# Altium footprint library CQFP_Sq_50P_Side_N.PcbLib: 5 footprints
Each footprint in its own frame and in the unit in brackets; x right, y up, seen from the top. Pads: shape width x height; smd on the part's side, far side on the other; paste and mask are expansions set on the pad; w line width, h text height; cw(c..) or ccw(c..) is an arc to the next point about the centre after c.
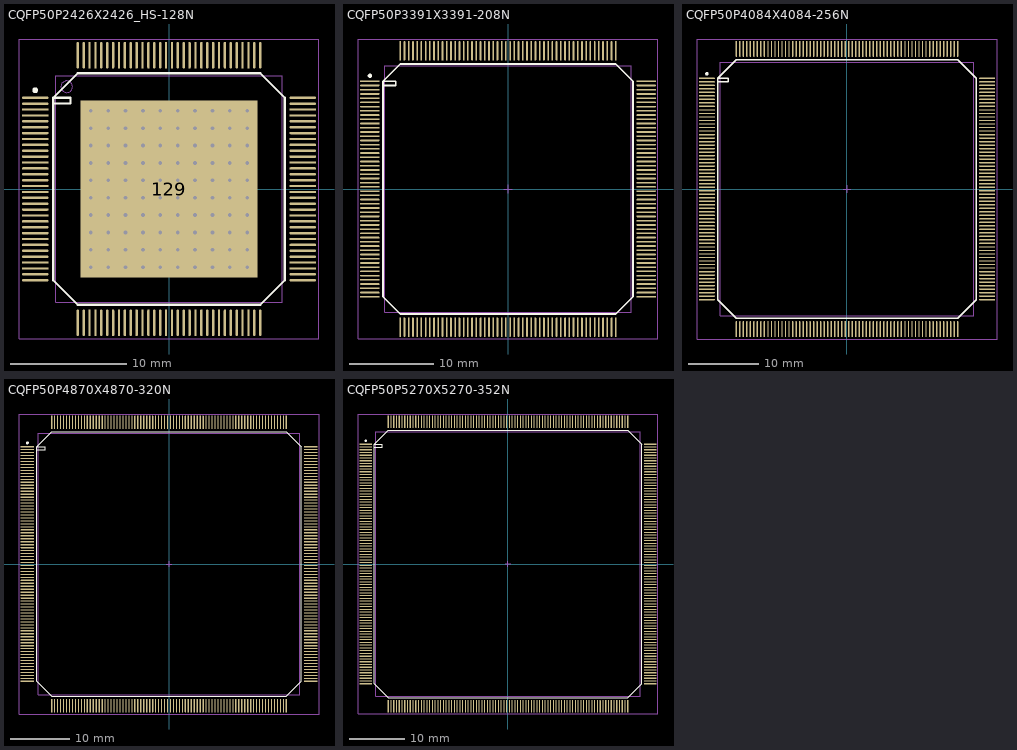
[diagram p0: the footprints below, top view; thin cyan lines are the x and y axes]

## CQFP50P2426X2426_HS-128N [mm] "CQFP, 128-Leads, Body 19.6x19.6mm; Pitch 0.508mm, Gullwing Leadform, IPC Medium Density"
height 3.4
pads (129):
  oval 2.3x0.2 smd: 1(-11.55,7.874) 2(-11.55,7.366) 3(-11.55,6.858) 4(-11.55,6.35) 5(-11.55,5.842) 6(-11.55,5.334) 7(-11.55,4.826) 8(-11.55,4.318) 9(-11.55,3.81) 10(-11.55,3.302) 11(-11.55,2.794) 12(-11.55,2.286) 13(-11.55,1.778) 14(-11.55,1.27) 15(-11.55,0.762) 16(-11.55,0.254) 17(-11.55,-0.254) 18(-11.55,-0.762) 19(-11.55,-1.27) 20(-11.55,-1.778) 21(-11.55,-2.286) 22(-11.55,-2.794) 23(-11.55,-3.302) 24(-11.55,-3.81) 25(-11.55,-4.318) 26(-11.55,-4.826) 27(-11.55,-5.334) 28(-11.55,-5.842) 29(-11.55,-6.35) 30(-11.55,-6.858) 31(-11.55,-7.366) 32(-11.55,-7.874) 65(11.55,-7.874) 66(11.55,-7.366) 67(11.55,-6.858) 68(11.55,-6.35) 69(11.55,-5.842) 70(11.55,-5.334) 71(11.55,-4.826) 72(11.55,-4.318) 73(11.55,-3.81) 74(11.55,-3.302) 75(11.55,-2.794) 76(11.55,-2.286) 77(11.55,-1.778) 78(11.55,-1.27) 79(11.55,-0.762) 80(11.55,-0.254) 81(11.55,0.254) 82(11.55,0.762) 83(11.55,1.27) 84(11.55,1.778) 85(11.55,2.286) 86(11.55,2.794) 87(11.55,3.302) 88(11.55,3.81) 89(11.55,4.318) 90(11.55,4.826) 91(11.55,5.334) 92(11.55,5.842) 93(11.55,6.35) 94(11.55,6.858) 95(11.55,7.366) 96(11.55,7.874)
  oval 0.2x2.3 smd: 33(-7.874,-11.55) 34(-7.366,-11.55) 35(-6.858,-11.55) 36(-6.35,-11.55) 37(-5.842,-11.55) 38(-5.334,-11.55) 39(-4.826,-11.55) 40(-4.318,-11.55) 41(-3.81,-11.55) 42(-3.302,-11.55) 43(-2.794,-11.55) 44(-2.286,-11.55) 45(-1.778,-11.55) 46(-1.27,-11.55) 47(-0.762,-11.55) 48(-0.254,-11.55) 49(0.254,-11.55) 50(0.762,-11.55) 51(1.27,-11.55) 52(1.778,-11.55) 53(2.286,-11.55) 54(2.794,-11.55) 55(3.302,-11.55) 56(3.81,-11.55) 57(4.318,-11.55) 58(4.826,-11.55) 59(5.334,-11.55) 60(5.842,-11.55) 61(6.35,-11.55) 62(6.858,-11.55) 63(7.366,-11.55) 64(7.874,-11.55) 97(7.874,11.55) 98(7.366,11.55) 99(6.858,11.55) 100(6.35,11.55) 101(5.842,11.55) 102(5.334,11.55) 103(4.826,11.55) 104(4.318,11.55) 105(3.81,11.55) 106(3.302,11.55) 107(2.794,11.55) 108(2.286,11.55) 109(1.778,11.55) 110(1.27,11.55) 111(0.762,11.55) 112(0.254,11.55) 113(-0.254,11.55) 114(-0.762,11.55) 115(-1.27,11.55) 116(-1.778,11.55) 117(-2.286,11.55) 118(-2.794,11.55) 119(-3.302,11.55) 120(-3.81,11.55) 121(-4.318,11.55) 122(-4.826,11.55) 123(-5.334,11.55) 124(-5.842,11.55) 125(-6.35,11.55) 126(-6.858,11.55) 127(-7.366,11.55) 128(-7.874,11.55)
  rect 15.3x15.3 smd: 129(0,0)
via 6.75,2.25 diameter 0.43 hole 0.33
via 5.25,2.25 diameter 0.43 hole 0.33
via 6.75,3.75 diameter 0.43 hole 0.33
via 5.25,3.75 diameter 0.43 hole 0.33
via -6.75,3.75 diameter 0.43 hole 0.33
via -6.75,2.25 diameter 0.43 hole 0.33
via -5.25,2.25 diameter 0.43 hole 0.33
via -5.25,3.75 diameter 0.43 hole 0.33
via -6.75,-3.75 diameter 0.43 hole 0.33
via -5.25,-3.75 diameter 0.43 hole 0.33
via -6.75,-2.25 diameter 0.43 hole 0.33
via -5.25,-2.25 diameter 0.43 hole 0.33
via 6.75,-3.75 diameter 0.43 hole 0.33
via 5.25,-3.75 diameter 0.43 hole 0.33
via 6.75,-2.25 diameter 0.43 hole 0.33
via 5.25,-2.25 diameter 0.43 hole 0.33
via 6.75,-0.75 diameter 0.43 hole 0.33
via 6.75,0.75 diameter 0.43 hole 0.33
via 5.25,-0.75 diameter 0.43 hole 0.33
via 5.25,0.75 diameter 0.43 hole 0.33
via -5.25,0.75 diameter 0.43 hole 0.33
via -6.75,0.75 diameter 0.43 hole 0.33
via -6.75,-0.75 diameter 0.43 hole 0.33
via -5.25,-0.75 diameter 0.43 hole 0.33
via 3.75,3.75 diameter 0.43 hole 0.33
via 2.25,3.75 diameter 0.43 hole 0.33
via 0.75,3.75 diameter 0.43 hole 0.33
via -3.75,3.75 diameter 0.43 hole 0.33
via -2.25,3.75 diameter 0.43 hole 0.33
via -0.75,3.75 diameter 0.43 hole 0.33
via 3.75,2.25 diameter 0.43 hole 0.33
via 2.25,2.25 diameter 0.43 hole 0.33
via 0.75,2.25 diameter 0.43 hole 0.33
via -3.75,2.25 diameter 0.43 hole 0.33
via -2.25,2.25 diameter 0.43 hole 0.33
via -0.75,2.25 diameter 0.43 hole 0.33
via 3.75,0.75 diameter 0.43 hole 0.33
via 2.25,0.75 diameter 0.43 hole 0.33
via 0.75,0.75 diameter 0.43 hole 0.33
via -3.75,0.75 diameter 0.43 hole 0.33
via -2.25,0.75 diameter 0.43 hole 0.33
via -0.75,0.75 diameter 0.43 hole 0.33
via 3.75,-3.75 diameter 0.43 hole 0.33
via 2.25,-3.75 diameter 0.43 hole 0.33
via 0.75,-3.75 diameter 0.43 hole 0.33
via -3.75,-3.75 diameter 0.43 hole 0.33
via -2.25,-3.75 diameter 0.43 hole 0.33
via -0.75,-3.75 diameter 0.43 hole 0.33
via 3.75,-2.25 diameter 0.43 hole 0.33
via 2.25,-2.25 diameter 0.43 hole 0.33
via 0.75,-2.25 diameter 0.43 hole 0.33
via -3.75,-2.25 diameter 0.43 hole 0.33
via -2.25,-2.25 diameter 0.43 hole 0.33
via 3.75,-0.75 diameter 0.43 hole 0.33
via 2.25,-0.75 diameter 0.43 hole 0.33
via 0.75,-0.75 diameter 0.43 hole 0.33
via -3.75,-0.75 diameter 0.43 hole 0.33
via -2.25,-0.75 diameter 0.43 hole 0.33
via -0.75,-2.25 diameter 0.43 hole 0.33
via -0.75,-0.75 diameter 0.43 hole 0.33
via -0.75,5.25 diameter 0.43 hole 0.33
via -2.25,5.25 diameter 0.43 hole 0.33
via -3.75,5.25 diameter 0.43 hole 0.33
via 0.75,5.25 diameter 0.43 hole 0.33
via 2.25,5.25 diameter 0.43 hole 0.33
via 3.75,5.25 diameter 0.43 hole 0.33
via -5.25,5.25 diameter 0.43 hole 0.33
via -6.75,5.25 diameter 0.43 hole 0.33
via 5.25,5.25 diameter 0.43 hole 0.33
via 6.75,5.25 diameter 0.43 hole 0.33
via -0.75,6.75 diameter 0.43 hole 0.33
via -2.25,6.75 diameter 0.43 hole 0.33
via -3.75,6.75 diameter 0.43 hole 0.33
via 0.75,6.75 diameter 0.43 hole 0.33
via 2.25,6.75 diameter 0.43 hole 0.33
via 3.75,6.75 diameter 0.43 hole 0.33
via -5.25,6.75 diameter 0.43 hole 0.33
via -6.75,6.75 diameter 0.43 hole 0.33
via 5.25,6.75 diameter 0.43 hole 0.33
via 6.75,6.75 diameter 0.43 hole 0.33
via 0.75,-5.25 diameter 0.43 hole 0.33
via 2.25,-5.25 diameter 0.43 hole 0.33
via 3.75,-5.25 diameter 0.43 hole 0.33
via -0.75,-5.25 diameter 0.43 hole 0.33
via -2.25,-5.25 diameter 0.43 hole 0.33
via -3.75,-5.25 diameter 0.43 hole 0.33
via 5.25,-5.25 diameter 0.43 hole 0.33
via 6.75,-5.25 diameter 0.43 hole 0.33
via -5.25,-5.25 diameter 0.43 hole 0.33
via -6.75,-5.25 diameter 0.43 hole 0.33
via 0.75,-6.75 diameter 0.43 hole 0.33
via 2.25,-6.75 diameter 0.43 hole 0.33
via 3.75,-6.75 diameter 0.43 hole 0.33
via -0.75,-6.75 diameter 0.43 hole 0.33
via -2.25,-6.75 diameter 0.43 hole 0.33
via -3.75,-6.75 diameter 0.43 hole 0.33
via 5.25,-6.75 diameter 0.43 hole 0.33
via 6.75,-6.75 diameter 0.43 hole 0.33
via -5.25,-6.75 diameter 0.43 hole 0.33
via -6.75,-6.75 diameter 0.43 hole 0.33
Top Overlay:
  circle w0.25: c-11.55,8.524 r0.125
  lines w0.2: -10,7.375 -8.5,7.375 -8.5,7.875 -10,7.875 ; -10,7.875 -10,-7.875 -7.875,-10 7.875,-10 10,-7.875 10,7.875 7.875,10 -7.875,10 -10,7.875
Mechanical 13:
  circle w0.1: c-8.83,8.83 r0.5
  lines w0.1: -9.78,-9.78 -9.78,9.78 9.78,9.78 9.78,-9.78 -9.78,-9.78
Mechanical 15:
  lines w0.1: -12.95,-12.95 -12.95,12.95 12.95,12.95 12.95,-12.95 -12.95,-12.95 ; -0.5,0 0.5,0 -0.5,0 ; 0,-0.5 0,0.5 0,-0.5
3D body: height 3.4, standoff 0, extent -9.78,-9.78 9.78,9.78

## CQFP50P3391X3391-208N [mm] "CQFP, 208-Leads, Body 29x29mm; Pitch 0.5mm, Gullwing Leadform, IPC Medium Density"
height 3.3
pads (208):
  oval 2.3x0.2 smd: 1(-16.35,12.75) 2(-16.35,12.25) 3(-16.35,11.75) 4(-16.35,11.25) 5(-16.35,10.75) 6(-16.35,10.25) 7(-16.35,9.75) 8(-16.35,9.25) 9(-16.35,8.75) 10(-16.35,8.25) 11(-16.35,7.75) 12(-16.35,7.25) 13(-16.35,6.75) 14(-16.35,6.25) 15(-16.35,5.75) 16(-16.35,5.25) 17(-16.35,4.75) 18(-16.35,4.25) 19(-16.35,3.75) 20(-16.35,3.25) 21(-16.35,2.75) 22(-16.35,2.25) 23(-16.35,1.75) 24(-16.35,1.25) 25(-16.35,0.75) 26(-16.35,0.25) 27(-16.35,-0.25) 28(-16.35,-0.75) 29(-16.35,-1.25) 30(-16.35,-1.75) 31(-16.35,-2.25) 32(-16.35,-2.75) 33(-16.35,-3.25) 34(-16.35,-3.75) 35(-16.35,-4.25) 36(-16.35,-4.75) 37(-16.35,-5.25) 38(-16.35,-5.75) 39(-16.35,-6.25) 40(-16.35,-6.75) 41(-16.35,-7.25) 42(-16.35,-7.75) 43(-16.35,-8.25) 44(-16.35,-8.75) 45(-16.35,-9.25) 46(-16.35,-9.75) 47(-16.35,-10.25) 48(-16.35,-10.75) 49(-16.35,-11.25) 50(-16.35,-11.75) 51(-16.35,-12.25) 52(-16.35,-12.75) 105(16.35,-12.75) 106(16.35,-12.25) 107(16.35,-11.75) 108(16.35,-11.25) 109(16.35,-10.75) 110(16.35,-10.25) 111(16.35,-9.75) 112(16.35,-9.25) 113(16.35,-8.75) 114(16.35,-8.25) 115(16.35,-7.75) 116(16.35,-7.25) 117(16.35,-6.75) 118(16.35,-6.25) 119(16.35,-5.75) 120(16.35,-5.25) 121(16.35,-4.75) 122(16.35,-4.25) 123(16.35,-3.75) 124(16.35,-3.25) 125(16.35,-2.75) 126(16.35,-2.25) 127(16.35,-1.75) 128(16.35,-1.25) 129(16.35,-0.75) 130(16.35,-0.25) 131(16.35,0.25) 132(16.35,0.75) 133(16.35,1.25) 134(16.35,1.75) 135(16.35,2.25) 136(16.35,2.75) 137(16.35,3.25) 138(16.35,3.75) 139(16.35,4.25) 140(16.35,4.75) 141(16.35,5.25) 142(16.35,5.75) 143(16.35,6.25) 144(16.35,6.75) 145(16.35,7.25) 146(16.35,7.75) 147(16.35,8.25) 148(16.35,8.75) 149(16.35,9.25) 150(16.35,9.75) 151(16.35,10.25) 152(16.35,10.75) 153(16.35,11.25) 154(16.35,11.75) 155(16.35,12.25) 156(16.35,12.75)
  oval 0.2x2.3 smd: 53(-12.75,-16.35) 54(-12.25,-16.35) 55(-11.75,-16.35) 56(-11.25,-16.35) 57(-10.75,-16.35) 58(-10.25,-16.35) 59(-9.75,-16.35) 60(-9.25,-16.35) 61(-8.75,-16.35) 62(-8.25,-16.35) 63(-7.75,-16.35) 64(-7.25,-16.35) 65(-6.75,-16.35) 66(-6.25,-16.35) 67(-5.75,-16.35) 68(-5.25,-16.35) 69(-4.75,-16.35) 70(-4.25,-16.35) 71(-3.75,-16.35) 72(-3.25,-16.35) 73(-2.75,-16.35) 74(-2.25,-16.35) 75(-1.75,-16.35) 76(-1.25,-16.35) 77(-0.75,-16.35) 78(-0.25,-16.35) 79(0.25,-16.35) 80(0.75,-16.35) 81(1.25,-16.35) 82(1.75,-16.35) 83(2.25,-16.35) 84(2.75,-16.35) 85(3.25,-16.35) 86(3.75,-16.35) 87(4.25,-16.35) 88(4.75,-16.35) 89(5.25,-16.35) 90(5.75,-16.35) 91(6.25,-16.35) 92(6.75,-16.35) 93(7.25,-16.35) 94(7.75,-16.35) 95(8.25,-16.35) 96(8.75,-16.35) 97(9.25,-16.35) 98(9.75,-16.35) 99(10.25,-16.35) 100(10.75,-16.35) 101(11.25,-16.35) 102(11.75,-16.35) 103(12.25,-16.35) 104(12.75,-16.35) 157(12.75,16.35) 158(12.25,16.35) 159(11.75,16.35) 160(11.25,16.35) 161(10.75,16.35) 162(10.25,16.35) 163(9.75,16.35) 164(9.25,16.35) 165(8.75,16.35) 166(8.25,16.35) 167(7.75,16.35) 168(7.25,16.35) 169(6.75,16.35) 170(6.25,16.35) 171(5.75,16.35) 172(5.25,16.35) 173(4.75,16.35) 174(4.25,16.35) 175(3.75,16.35) 176(3.25,16.35) 177(2.75,16.35) 178(2.25,16.35) 179(1.75,16.35) 180(1.25,16.35) 181(0.75,16.35) 182(0.25,16.35) 183(-0.25,16.35) 184(-0.75,16.35) 185(-1.25,16.35) 186(-1.75,16.35) 187(-2.25,16.35) 188(-2.75,16.35) 189(-3.25,16.35) 190(-3.75,16.35) 191(-4.25,16.35) 192(-4.75,16.35) 193(-5.25,16.35) 194(-5.75,16.35) 195(-6.25,16.35) 196(-6.75,16.35) 197(-7.25,16.35) 198(-7.75,16.35) 199(-8.25,16.35) 200(-8.75,16.35) 201(-9.25,16.35) 202(-9.75,16.35) 203(-10.25,16.35) 204(-10.75,16.35) 205(-11.25,16.35) 206(-11.75,16.35) 207(-12.25,16.35) 208(-12.75,16.35)
Top Overlay:
  circle w0.25: c-16.35,13.4 r0.125
  lines w0.2: -14.8,12.25 -13.3,12.25 -13.3,12.75 -14.8,12.75 ; -14.8,12.75 -14.8,-12.75 -12.75,-14.8 12.75,-14.8 14.8,-12.75 14.8,12.75 12.75,14.8 -12.75,14.8 -14.8,12.75
Mechanical 13:
  lines w0.1: -14.605,-14.605 -14.605,14.605 14.605,14.605 14.605,-14.605 -14.605,-14.605
Mechanical 15:
  lines w0.1: -0.5,0 0.5,0 ; 0,-0.5 0,0.5 ; -17.75,-17.75 -17.75,17.75 17.75,17.75 17.75,-17.75 -17.75,-17.75
3D body: height 3.3, standoff 0, extent -14.605,-14.605 14.605,14.605

## CQFP50P4084X4084-256N [mm] "CQFP, 256-Leads, Body 36x36mm; Pitch 0.5mm, Gullwing Leadform, IPC Medium Density"
height 3.3
pads (256):
  oval 2.3x0.2 smd: 1(-19.95,15.75) 2(-19.95,15.25) 3(-19.95,14.75) 4(-19.95,14.25) 5(-19.95,13.75) 6(-19.95,13.25) 7(-19.95,12.75) 8(-19.95,12.25) 9(-19.95,11.75) 10(-19.95,11.25) 11(-19.95,10.75) 12(-19.95,10.25) 13(-19.95,9.75) 14(-19.95,9.25) 15(-19.95,8.75) 16(-19.95,8.25) 17(-19.95,7.75) 18(-19.95,7.25) 19(-19.95,6.75) 20(-19.95,6.25) 21(-19.95,5.75) 22(-19.95,5.25) 23(-19.95,4.75) 24(-19.95,4.25) 25(-19.95,3.75) 26(-19.95,3.25) 27(-19.95,2.75) 28(-19.95,2.25) 29(-19.95,1.75) 30(-19.95,1.25) 31(-19.95,0.75) 32(-19.95,0.25) 33(-19.95,-0.25) 34(-19.95,-0.75) 35(-19.95,-1.25) 36(-19.95,-1.75) 37(-19.95,-2.25) 38(-19.95,-2.75) 39(-19.95,-3.25) 40(-19.95,-3.75) 41(-19.95,-4.25) 42(-19.95,-4.75) 43(-19.95,-5.25) 44(-19.95,-5.75) 45(-19.95,-6.25) 46(-19.95,-6.75) 47(-19.95,-7.25) 48(-19.95,-7.75) 49(-19.95,-8.25) 50(-19.95,-8.75) 51(-19.95,-9.25) 52(-19.95,-9.75) 53(-19.95,-10.25) 54(-19.95,-10.75) 55(-19.95,-11.25) 56(-19.95,-11.75) 57(-19.95,-12.25) 58(-19.95,-12.75) 59(-19.95,-13.25) 60(-19.95,-13.75) 61(-19.95,-14.25) 62(-19.95,-14.75) 63(-19.95,-15.25) 64(-19.95,-15.75) 129(19.95,-15.75) 130(19.95,-15.25) 131(19.95,-14.75) 132(19.95,-14.25) 133(19.95,-13.75) 134(19.95,-13.25) 135(19.95,-12.75) 136(19.95,-12.25) 137(19.95,-11.75) 138(19.95,-11.25) 139(19.95,-10.75) 140(19.95,-10.25) 141(19.95,-9.75) 142(19.95,-9.25) 143(19.95,-8.75) 144(19.95,-8.25) 145(19.95,-7.75) 146(19.95,-7.25) 147(19.95,-6.75) 148(19.95,-6.25) 149(19.95,-5.75) 150(19.95,-5.25) 151(19.95,-4.75) 152(19.95,-4.25) 153(19.95,-3.75) 154(19.95,-3.25) 155(19.95,-2.75) 156(19.95,-2.25) 157(19.95,-1.75) 158(19.95,-1.25) 159(19.95,-0.75) 160(19.95,-0.25) 161(19.95,0.25) 162(19.95,0.75) 163(19.95,1.25) 164(19.95,1.75) 165(19.95,2.25) 166(19.95,2.75) 167(19.95,3.25) 168(19.95,3.75) 169(19.95,4.25) 170(19.95,4.75) 171(19.95,5.25) 172(19.95,5.75) 173(19.95,6.25) 174(19.95,6.75) 175(19.95,7.25) 176(19.95,7.75) 177(19.95,8.25) 178(19.95,8.75) 179(19.95,9.25) 180(19.95,9.75) 181(19.95,10.25) 182(19.95,10.75) 183(19.95,11.25) 184(19.95,11.75) 185(19.95,12.25) 186(19.95,12.75) 187(19.95,13.25) 188(19.95,13.75) 189(19.95,14.25) 190(19.95,14.75) 191(19.95,15.25) 192(19.95,15.75)
  oval 0.2x2.3 smd: 65(-15.75,-19.95) 66(-15.25,-19.95) 67(-14.75,-19.95) 68(-14.25,-19.95) 69(-13.75,-19.95) 70(-13.25,-19.95) 71(-12.75,-19.95) 72(-12.25,-19.95) 73(-11.75,-19.95) 74(-11.25,-19.95) 75(-10.75,-19.95) 76(-10.25,-19.95) 77(-9.75,-19.95) 78(-9.25,-19.95) 79(-8.75,-19.95) 80(-8.25,-19.95) 81(-7.75,-19.95) 82(-7.25,-19.95) 83(-6.75,-19.95) 84(-6.25,-19.95) 85(-5.75,-19.95) 86(-5.25,-19.95) 87(-4.75,-19.95) 88(-4.25,-19.95) 89(-3.75,-19.95) 90(-3.25,-19.95) 91(-2.75,-19.95) 92(-2.25,-19.95) 93(-1.75,-19.95) 94(-1.25,-19.95) 95(-0.75,-19.95) 96(-0.25,-19.95) 97(0.25,-19.95) 98(0.75,-19.95) 99(1.25,-19.95) 100(1.75,-19.95) 101(2.25,-19.95) 102(2.75,-19.95) 103(3.25,-19.95) 104(3.75,-19.95) 105(4.25,-19.95) 106(4.75,-19.95) 107(5.25,-19.95) 108(5.75,-19.95) 109(6.25,-19.95) 110(6.75,-19.95) 111(7.25,-19.95) 112(7.75,-19.95) 113(8.25,-19.95) 114(8.75,-19.95) 115(9.25,-19.95) 116(9.75,-19.95) 117(10.25,-19.95) 118(10.75,-19.95) 119(11.25,-19.95) 120(11.75,-19.95) 121(12.25,-19.95) 122(12.75,-19.95) 123(13.25,-19.95) 124(13.75,-19.95) 125(14.25,-19.95) 126(14.75,-19.95) 127(15.25,-19.95) 128(15.75,-19.95) 193(15.75,19.95) 194(15.25,19.95) 195(14.75,19.95) 196(14.25,19.95) 197(13.75,19.95) 198(13.25,19.95) 199(12.75,19.95) 200(12.25,19.95) 201(11.75,19.95) 202(11.25,19.95) 203(10.75,19.95) 204(10.25,19.95) 205(9.75,19.95) 206(9.25,19.95) 207(8.75,19.95) 208(8.25,19.95) 209(7.75,19.95) 210(7.25,19.95) 211(6.75,19.95) 212(6.25,19.95) 213(5.75,19.95) 214(5.25,19.95) 215(4.75,19.95) 216(4.25,19.95) 217(3.75,19.95) 218(3.25,19.95) 219(2.75,19.95) 220(2.25,19.95) 221(1.75,19.95) 222(1.25,19.95) 223(0.75,19.95) 224(0.25,19.95) 225(-0.25,19.95) 226(-0.75,19.95) 227(-1.25,19.95) 228(-1.75,19.95) 229(-2.25,19.95) 230(-2.75,19.95) 231(-3.25,19.95) 232(-3.75,19.95) 233(-4.25,19.95) 234(-4.75,19.95) 235(-5.25,19.95) 236(-5.75,19.95) 237(-6.25,19.95) 238(-6.75,19.95) 239(-7.25,19.95) 240(-7.75,19.95) 241(-8.25,19.95) 242(-8.75,19.95) 243(-9.25,19.95) 244(-9.75,19.95) 245(-10.25,19.95) 246(-10.75,19.95) 247(-11.25,19.95) 248(-11.75,19.95) 249(-12.25,19.95) 250(-12.75,19.95) 251(-13.25,19.95) 252(-13.75,19.95) 253(-14.25,19.95) 254(-14.75,19.95) 255(-15.25,19.95) 256(-15.75,19.95)
Top Overlay:
  circle w0.25: c-19.95,16.4 r0.125
  lines w0.2: -18.4,15.25 -16.9,15.25 -16.9,15.75 -18.4,15.75 ; -18.4,15.75 -15.75,18.4 15.75,18.4 18.4,15.75 18.4,-15.75 15.75,-18.4 -15.75,-18.4 -18.4,-15.75 -18.4,15.75
Mechanical 13:
  lines w0.1: -18.07,-18.07 18.07,-18.07 18.07,18.07 -18.07,18.07 -18.07,-18.07
Mechanical 15:
  lines w0.1: -0.5,0 0.5,0 ; 0,-0.5 0,0.5 ; -21.35,-21.35 21.35,-21.35 21.35,21.35 -21.35,21.35 -21.35,-21.35
3D body: height 3.3, standoff 0, extent -18.07,-18.07 18.07,18.07

## CQFP50P4870X4870-320N [mm] "QFP; 320 Leads; Body 44 x 44 mm; Pitch 0.5mm"
height 2.7
pads (320):
  oval 2.3x0.2 smd: 1(-23.85,19.75) 2(-23.85,19.25) 3(-23.85,18.75) 4(-23.85,18.25) 5(-23.85,17.75) 6(-23.85,17.25) 7(-23.85,16.75) 8(-23.85,16.25) 9(-23.85,15.75) 10(-23.85,15.25) 11(-23.85,14.75) 12(-23.85,14.25) 13(-23.85,13.75) 14(-23.85,13.25) 15(-23.85,12.75) 16(-23.85,12.25) 17(-23.85,11.75) 18(-23.85,11.25) 19(-23.85,10.75) 20(-23.85,10.25) 21(-23.85,9.75) 22(-23.85,9.25) 23(-23.85,8.75) 24(-23.85,8.25) 25(-23.85,7.75) 26(-23.85,7.25) 27(-23.85,6.75) 28(-23.85,6.25) 29(-23.85,5.75) 30(-23.85,5.25) 31(-23.85,4.75) 32(-23.85,4.25) 33(-23.85,3.75) 34(-23.85,3.25) 35(-23.85,2.75) 36(-23.85,2.25) 37(-23.85,1.75) 38(-23.85,1.25) 39(-23.85,0.75) 40(-23.85,0.25) 41(-23.85,-0.25) 42(-23.85,-0.75) 43(-23.85,-1.25) 44(-23.85,-1.75) 45(-23.85,-2.25) 46(-23.85,-2.75) 47(-23.85,-3.25) 48(-23.85,-3.75) 49(-23.85,-4.25) 50(-23.85,-4.75) 51(-23.85,-5.25) 52(-23.85,-5.75) 53(-23.85,-6.25) 54(-23.85,-6.75) 55(-23.85,-7.25) 56(-23.85,-7.75) 57(-23.85,-8.25) 58(-23.85,-8.75) 59(-23.85,-9.25) 60(-23.85,-9.75) 61(-23.85,-10.25) 62(-23.85,-10.75) 63(-23.85,-11.25) 64(-23.85,-11.75) 65(-23.85,-12.25) 66(-23.85,-12.75) 67(-23.85,-13.25) 68(-23.85,-13.75) 69(-23.85,-14.25) 70(-23.85,-14.75) 71(-23.85,-15.25) 72(-23.85,-15.75) 73(-23.85,-16.25) 74(-23.85,-16.75) 75(-23.85,-17.25) 76(-23.85,-17.75) 77(-23.85,-18.25) 78(-23.85,-18.75) 79(-23.85,-19.25) 80(-23.85,-19.75) 161(23.85,-19.75) 162(23.85,-19.25) 163(23.85,-18.75) 164(23.85,-18.25) 165(23.85,-17.75) 166(23.85,-17.25) 167(23.85,-16.75) 168(23.85,-16.25) 169(23.85,-15.75) 170(23.85,-15.25) 171(23.85,-14.75) 172(23.85,-14.25) 173(23.85,-13.75) 174(23.85,-13.25) 175(23.85,-12.75) 176(23.85,-12.25) 177(23.85,-11.75) 178(23.85,-11.25) 179(23.85,-10.75) 180(23.85,-10.25) 181(23.85,-9.75) 182(23.85,-9.25) 183(23.85,-8.75) 184(23.85,-8.25) 185(23.85,-7.75) 186(23.85,-7.25) 187(23.85,-6.75) 188(23.85,-6.25) 189(23.85,-5.75) 190(23.85,-5.25) 191(23.85,-4.75) 192(23.85,-4.25) 193(23.85,-3.75) 194(23.85,-3.25) 195(23.85,-2.75) 196(23.85,-2.25) 197(23.85,-1.75) 198(23.85,-1.25) 199(23.85,-0.75) 200(23.85,-0.25) 201(23.85,0.25) 202(23.85,0.75) 203(23.85,1.25) 204(23.85,1.75) 205(23.85,2.25) 206(23.85,2.75) 207(23.85,3.25) 208(23.85,3.75) 209(23.85,4.25) 210(23.85,4.75) 211(23.85,5.25) 212(23.85,5.75) 213(23.85,6.25) 214(23.85,6.75) 215(23.85,7.25) 216(23.85,7.75) 217(23.85,8.25) 218(23.85,8.75) 219(23.85,9.25) 220(23.85,9.75) 221(23.85,10.25) 222(23.85,10.75) 223(23.85,11.25) 224(23.85,11.75) 225(23.85,12.25) 226(23.85,12.75) 227(23.85,13.25) 228(23.85,13.75) 229(23.85,14.25) 230(23.85,14.75) 231(23.85,15.25) 232(23.85,15.75) 233(23.85,16.25) 234(23.85,16.75) 235(23.85,17.25) 236(23.85,17.75) 237(23.85,18.25) 238(23.85,18.75) 239(23.85,19.25) 240(23.85,19.75)
  oval 0.2x2.3 smd: 81(-19.75,-23.85) 82(-19.25,-23.85) 83(-18.75,-23.85) 84(-18.25,-23.85) 85(-17.75,-23.85) 86(-17.25,-23.85) 87(-16.75,-23.85) 88(-16.25,-23.85) 89(-15.75,-23.85) 90(-15.25,-23.85) 91(-14.75,-23.85) 92(-14.25,-23.85) 93(-13.75,-23.85) 94(-13.25,-23.85) 95(-12.75,-23.85) 96(-12.25,-23.85) 97(-11.75,-23.85) 98(-11.25,-23.85) 99(-10.75,-23.85) 100(-10.25,-23.85) 101(-9.75,-23.85) 102(-9.25,-23.85) 103(-8.75,-23.85) 104(-8.25,-23.85) 105(-7.75,-23.85) 106(-7.25,-23.85) 107(-6.75,-23.85) 108(-6.25,-23.85) 109(-5.75,-23.85) 110(-5.25,-23.85) 111(-4.75,-23.85) 112(-4.25,-23.85) 113(-3.75,-23.85) 114(-3.25,-23.85) 115(-2.75,-23.85) 116(-2.25,-23.85) 117(-1.75,-23.85) 118(-1.25,-23.85) 119(-0.75,-23.85) 120(-0.25,-23.85) 121(0.25,-23.85) 122(0.75,-23.85) 123(1.25,-23.85) 124(1.75,-23.85) 125(2.25,-23.85) 126(2.75,-23.85) 127(3.25,-23.85) 128(3.75,-23.85) 129(4.25,-23.85) 130(4.75,-23.85) 131(5.25,-23.85) 132(5.75,-23.85) 133(6.25,-23.85) 134(6.75,-23.85) 135(7.25,-23.85) 136(7.75,-23.85) 137(8.25,-23.85) 138(8.75,-23.85) 139(9.25,-23.85) 140(9.75,-23.85) 141(10.25,-23.85) 142(10.75,-23.85) 143(11.25,-23.85) 144(11.75,-23.85) 145(12.25,-23.85) 146(12.75,-23.85) 147(13.25,-23.85) 148(13.75,-23.85) 149(14.25,-23.85) 150(14.75,-23.85) 151(15.25,-23.85) 152(15.75,-23.85) 153(16.25,-23.85) 154(16.75,-23.85) 155(17.25,-23.85) 156(17.75,-23.85) 157(18.25,-23.85) 158(18.75,-23.85) 159(19.25,-23.85) 160(19.75,-23.85) 241(19.75,23.85) 242(19.25,23.85) 243(18.75,23.85) 244(18.25,23.85) 245(17.75,23.85) 246(17.25,23.85) 247(16.75,23.85) 248(16.25,23.85) 249(15.75,23.85) 250(15.25,23.85) 251(14.75,23.85) 252(14.25,23.85) 253(13.75,23.85) 254(13.25,23.85) 255(12.75,23.85) 256(12.25,23.85) 257(11.75,23.85) 258(11.25,23.85) 259(10.75,23.85) 260(10.25,23.85) 261(9.75,23.85) 262(9.25,23.85) 263(8.75,23.85) 264(8.25,23.85) 265(7.75,23.85) 266(7.25,23.85) 267(6.75,23.85) 268(6.25,23.85) 269(5.75,23.85) 270(5.25,23.85) 271(4.75,23.85) 272(4.25,23.85) 273(3.75,23.85) 274(3.25,23.85) 275(2.75,23.85) 276(2.25,23.85) 277(1.75,23.85) 278(1.25,23.85) 279(0.75,23.85) 280(0.25,23.85) 281(-0.25,23.85) 282(-0.75,23.85) 283(-1.25,23.85) 284(-1.75,23.85) 285(-2.25,23.85) 286(-2.75,23.85) 287(-3.25,23.85) 288(-3.75,23.85) 289(-4.25,23.85) 290(-4.75,23.85) 291(-5.25,23.85) 292(-5.75,23.85) 293(-6.25,23.85) 294(-6.75,23.85) 295(-7.25,23.85) 296(-7.75,23.85) 297(-8.25,23.85) 298(-8.75,23.85) 299(-9.25,23.85) 300(-9.75,23.85) 301(-10.25,23.85) 302(-10.75,23.85) 303(-11.25,23.85) 304(-11.75,23.85) 305(-12.25,23.85) 306(-12.75,23.85) 307(-13.25,23.85) 308(-13.75,23.85) 309(-14.25,23.85) 310(-14.75,23.85) 311(-15.25,23.85) 312(-15.75,23.85) 313(-16.25,23.85) 314(-16.75,23.85) 315(-17.25,23.85) 316(-17.75,23.85) 317(-18.25,23.85) 318(-18.75,23.85) 319(-19.25,23.85) 320(-19.75,23.85)
Top Overlay:
  circle w0.25: c-23.85,20.4 r0.125
  lines w0.2: -22.3,19.25 -20.8,19.25 -20.8,19.75 -22.3,19.75 ; -22.3,19.75 -22.3,-19.75 -19.75,-22.3 19.75,-22.3 22.3,-19.75 22.3,19.75 19.75,22.3 -19.75,22.3 -22.3,19.75
Mechanical 13:
  lines w0.1: -22,-22 -22,22 22,22 22,-22 -22,-22
Mechanical 15:
  lines w0.1: -0.5,0 0.5,0 ; 0,-0.5 0,0.5 ; -25.25,-25.25 -25.25,25.25 25.25,25.25 25.25,-25.25 -25.25,-25.25
3D body: height 2.7, standoff 0, extent -22,-22 22,22

## CQFP50P5270X5270-352N [mm] "CQFP, 352-Leads, Body 48x48mm; Pitch 0.5mm, Gullwing Leadform, IPC Medium Density"
height 2.9
pads (352):
  oval 2.3x0.2 smd: 1(-25.85,21.75) 2(-25.85,21.25) 3(-25.85,20.75) 4(-25.85,20.25) 5(-25.85,19.75) 6(-25.85,19.25) 7(-25.85,18.75) 8(-25.85,18.25) 9(-25.85,17.75) 10(-25.85,17.25) 11(-25.85,16.75) 12(-25.85,16.25) 13(-25.85,15.75) 14(-25.85,15.25) 15(-25.85,14.75) 16(-25.85,14.25) 17(-25.85,13.75) 18(-25.85,13.25) 19(-25.85,12.75) 20(-25.85,12.25) 21(-25.85,11.75) 22(-25.85,11.25) 23(-25.85,10.75) 24(-25.85,10.25) 25(-25.85,9.75) 26(-25.85,9.25) 27(-25.85,8.75) 28(-25.85,8.25) 29(-25.85,7.75) 30(-25.85,7.25) 31(-25.85,6.75) 32(-25.85,6.25) 33(-25.85,5.75) 34(-25.85,5.25) 35(-25.85,4.75) 36(-25.85,4.25) 37(-25.85,3.75) 38(-25.85,3.25) 39(-25.85,2.75) 40(-25.85,2.25) 41(-25.85,1.75) 42(-25.85,1.25) 43(-25.85,0.75) 44(-25.85,0.25) 45(-25.85,-0.25) 46(-25.85,-0.75) 47(-25.85,-1.25) 48(-25.85,-1.75) 49(-25.85,-2.25) 50(-25.85,-2.75) 51(-25.85,-3.25) 52(-25.85,-3.75) 53(-25.85,-4.25) 54(-25.85,-4.75) 55(-25.85,-5.25) 56(-25.85,-5.75) 57(-25.85,-6.25) 58(-25.85,-6.75) 59(-25.85,-7.25) 60(-25.85,-7.75) 61(-25.85,-8.25) 62(-25.85,-8.75) 63(-25.85,-9.25) 64(-25.85,-9.75) 65(-25.85,-10.25) 66(-25.85,-10.75) 67(-25.85,-11.25) 68(-25.85,-11.75) 69(-25.85,-12.25) 70(-25.85,-12.75) 71(-25.85,-13.25) 72(-25.85,-13.75) 73(-25.85,-14.25) 74(-25.85,-14.75) 75(-25.85,-15.25) 76(-25.85,-15.75) 77(-25.85,-16.25) 78(-25.85,-16.75) 79(-25.85,-17.25) 80(-25.85,-17.75) 81(-25.85,-18.25) 82(-25.85,-18.75) 83(-25.85,-19.25) 84(-25.85,-19.75) 85(-25.85,-20.25) 86(-25.85,-20.75) 87(-25.85,-21.25) 88(-25.85,-21.75) 177(25.85,-21.75) 178(25.85,-21.25) 179(25.85,-20.75) 180(25.85,-20.25) 181(25.85,-19.75) 182(25.85,-19.25) 183(25.85,-18.75) 184(25.85,-18.25) 185(25.85,-17.75) 186(25.85,-17.25) 187(25.85,-16.75) 188(25.85,-16.25) 189(25.85,-15.75) 190(25.85,-15.25) 191(25.85,-14.75) 192(25.85,-14.25) 193(25.85,-13.75) 194(25.85,-13.25) 195(25.85,-12.75) 196(25.85,-12.25) 197(25.85,-11.75) 198(25.85,-11.25) 199(25.85,-10.75) 200(25.85,-10.25) 201(25.85,-9.75) 202(25.85,-9.25) 203(25.85,-8.75) 204(25.85,-8.25) 205(25.85,-7.75) 206(25.85,-7.25) 207(25.85,-6.75) 208(25.85,-6.25) 209(25.85,-5.75) 210(25.85,-5.25) 211(25.85,-4.75) 212(25.85,-4.25) 213(25.85,-3.75) 214(25.85,-3.25) 215(25.85,-2.75) 216(25.85,-2.25) 217(25.85,-1.75) 218(25.85,-1.25) 219(25.85,-0.75) 220(25.85,-0.25) 221(25.85,0.25) 222(25.85,0.75) 223(25.85,1.25) 224(25.85,1.75) 225(25.85,2.25) 226(25.85,2.75) 227(25.85,3.25) 228(25.85,3.75) 229(25.85,4.25) 230(25.85,4.75) 231(25.85,5.25) 232(25.85,5.75) 233(25.85,6.25) 234(25.85,6.75) 235(25.85,7.25) 236(25.85,7.75) 237(25.85,8.25) 238(25.85,8.75) 239(25.85,9.25) 240(25.85,9.75) 241(25.85,10.25) 242(25.85,10.75) 243(25.85,11.25) 244(25.85,11.75) 245(25.85,12.25) 246(25.85,12.75) 247(25.85,13.25) 248(25.85,13.75) 249(25.85,14.25) 250(25.85,14.75) 251(25.85,15.25) 252(25.85,15.75) 253(25.85,16.25) 254(25.85,16.75) 255(25.85,17.25) 256(25.85,17.75) 257(25.85,18.25) 258(25.85,18.75) 259(25.85,19.25) 260(25.85,19.75) 261(25.85,20.25) 262(25.85,20.75) 263(25.85,21.25) 264(25.85,21.75)
  oval 0.2x2.3 smd: 89(-21.75,-25.85) 90(-21.25,-25.85) 91(-20.75,-25.85) 92(-20.25,-25.85) 93(-19.75,-25.85) 94(-19.25,-25.85) 95(-18.75,-25.85) 96(-18.25,-25.85) 97(-17.75,-25.85) 98(-17.25,-25.85) 99(-16.75,-25.85) 100(-16.25,-25.85) 101(-15.75,-25.85) 102(-15.25,-25.85) 103(-14.75,-25.85) 104(-14.25,-25.85) 105(-13.75,-25.85) 106(-13.25,-25.85) 107(-12.75,-25.85) 108(-12.25,-25.85) 109(-11.75,-25.85) 110(-11.25,-25.85) 111(-10.75,-25.85) 112(-10.25,-25.85) 113(-9.75,-25.85) 114(-9.25,-25.85) 115(-8.75,-25.85) 116(-8.25,-25.85) 117(-7.75,-25.85) 118(-7.25,-25.85) 119(-6.75,-25.85) 120(-6.25,-25.85) 121(-5.75,-25.85) 122(-5.25,-25.85) 123(-4.75,-25.85) 124(-4.25,-25.85) 125(-3.75,-25.85) 126(-3.25,-25.85) 127(-2.75,-25.85) 128(-2.25,-25.85) 129(-1.75,-25.85) 130(-1.25,-25.85) 131(-0.75,-25.85) 132(-0.25,-25.85) 133(0.25,-25.85) 134(0.75,-25.85) 135(1.25,-25.85) 136(1.75,-25.85) 137(2.25,-25.85) 138(2.75,-25.85) 139(3.25,-25.85) 140(3.75,-25.85) 141(4.25,-25.85) 142(4.75,-25.85) 143(5.25,-25.85) 144(5.75,-25.85) 145(6.25,-25.85) 146(6.75,-25.85) 147(7.25,-25.85) 148(7.75,-25.85) 149(8.25,-25.85) 150(8.75,-25.85) 151(9.25,-25.85) 152(9.75,-25.85) 153(10.25,-25.85) 154(10.75,-25.85) 155(11.25,-25.85) 156(11.75,-25.85) 157(12.25,-25.85) 158(12.75,-25.85) 159(13.25,-25.85) 160(13.75,-25.85) 161(14.25,-25.85) 162(14.75,-25.85) 163(15.25,-25.85) 164(15.75,-25.85) 165(16.25,-25.85) 166(16.75,-25.85) 167(17.25,-25.85) 168(17.75,-25.85) 169(18.25,-25.85) 170(18.75,-25.85) 171(19.25,-25.85) 172(19.75,-25.85) 173(20.25,-25.85) 174(20.75,-25.85) 175(21.25,-25.85) 176(21.75,-25.85) 265(21.75,25.85) 266(21.25,25.85) 267(20.75,25.85) 268(20.25,25.85) 269(19.75,25.85) 270(19.25,25.85) 271(18.75,25.85) 272(18.25,25.85) 273(17.75,25.85) 274(17.25,25.85) 275(16.75,25.85) 276(16.25,25.85) 277(15.75,25.85) 278(15.25,25.85) 279(14.75,25.85) 280(14.25,25.85) 281(13.75,25.85) 282(13.25,25.85) 283(12.75,25.85) 284(12.25,25.85) 285(11.75,25.85) 286(11.25,25.85) 287(10.75,25.85) 288(10.25,25.85) 289(9.75,25.85) 290(9.25,25.85) 291(8.75,25.85) 292(8.25,25.85) 293(7.75,25.85) 294(7.25,25.85) 295(6.75,25.85) 296(6.25,25.85) 297(5.75,25.85) 298(5.25,25.85) 299(4.75,25.85) 300(4.25,25.85) 301(3.75,25.85) 302(3.25,25.85) 303(2.75,25.85) 304(2.25,25.85) 305(1.75,25.85) 306(1.25,25.85) 307(0.75,25.85) 308(0.25,25.85) 309(-0.25,25.85) 310(-0.75,25.85) 311(-1.25,25.85) 312(-1.75,25.85) 313(-2.25,25.85) 314(-2.75,25.85) 315(-3.25,25.85) 316(-3.75,25.85) 317(-4.25,25.85) 318(-4.75,25.85) 319(-5.25,25.85) 320(-5.75,25.85) 321(-6.25,25.85) 322(-6.75,25.85) 323(-7.25,25.85) 324(-7.75,25.85) 325(-8.25,25.85) 326(-8.75,25.85) 327(-9.25,25.85) 328(-9.75,25.85) 329(-10.25,25.85) 330(-10.75,25.85) 331(-11.25,25.85) 332(-11.75,25.85) 333(-12.25,25.85) 334(-12.75,25.85) 335(-13.25,25.85) 336(-13.75,25.85) 337(-14.25,25.85) 338(-14.75,25.85) 339(-15.25,25.85) 340(-15.75,25.85) 341(-16.25,25.85) 342(-16.75,25.85) 343(-17.25,25.85) 344(-17.75,25.85) 345(-18.25,25.85) 346(-18.75,25.85) 347(-19.25,25.85) 348(-19.75,25.85) 349(-20.25,25.85) 350(-20.75,25.85) 351(-21.25,25.85) 352(-21.75,25.85)
Top Overlay:
  circle w0.25: c-25.85,22.4 r0.125
  lines w0.2: -24.3,21.25 -22.8,21.25 -22.8,21.75 -24.3,21.75 ; -24.3,21.75 -21.75,24.3 21.75,24.3 24.3,21.75 24.3,-21.75 21.75,-24.3 -21.75,-24.3 -24.3,-21.75 -24.3,21.75
Mechanical 13:
  lines w0.1: -24,-24 24,-24 24,24 -24,24 -24,-24
Mechanical 15:
  lines w0.1: -0.5,0 0.5,0 ; 0,-0.5 0,0.5 ; -27.25,-27.25 27.25,-27.25 27.25,27.25 -27.25,27.25 -27.25,-27.25
3D body: height 2.9, standoff 0, extent -24,-24 24,24